# EAGLE library part 5VCONV (library 5V_Converter_Symbol)
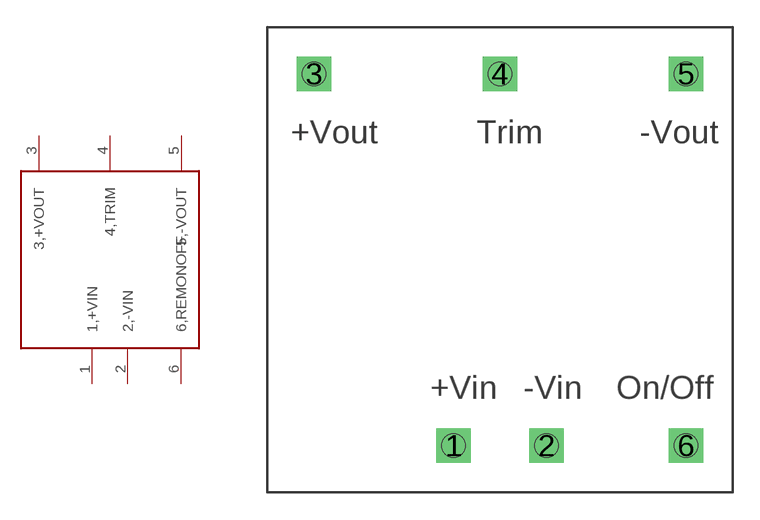
[diagram p0: symbol with the pads of 5VCONV; footprint 5VCONV]

Designator prefix -

## 5VCONV  [5VCONV]
1  1,+VIN
2  2,-VIN
3  3,+VOUT
4  4,TRIM
5  5,-VOUT
6  6,REMONOFF

## Footprint 5VCONV (pad centres in mm)
drill 1.27 square: 1 -15.24,-15.24; 2 -10.16,-15.24; 3 -22.86,5.08; 4 -12.7,5.08; 5 -2.54,5.08; 6 -2.54,-15.24
hole 1.27 at -22.86,5.08
hole 1.27 at -12.7,5.08
hole 1.27 at -2.54,5.08
hole 1.27 at -2.54,-15.24
hole 1.27 at -10.16,-15.24
hole 1.27 at -15.24,-15.24